# Altium schematic symbol library SCH - MCU - TI - TI MSPM0L222X LQFP-80 PNA.SchLib: 1 symbol
Pins are listed as number, name and electrical type; pins without a type are passive.

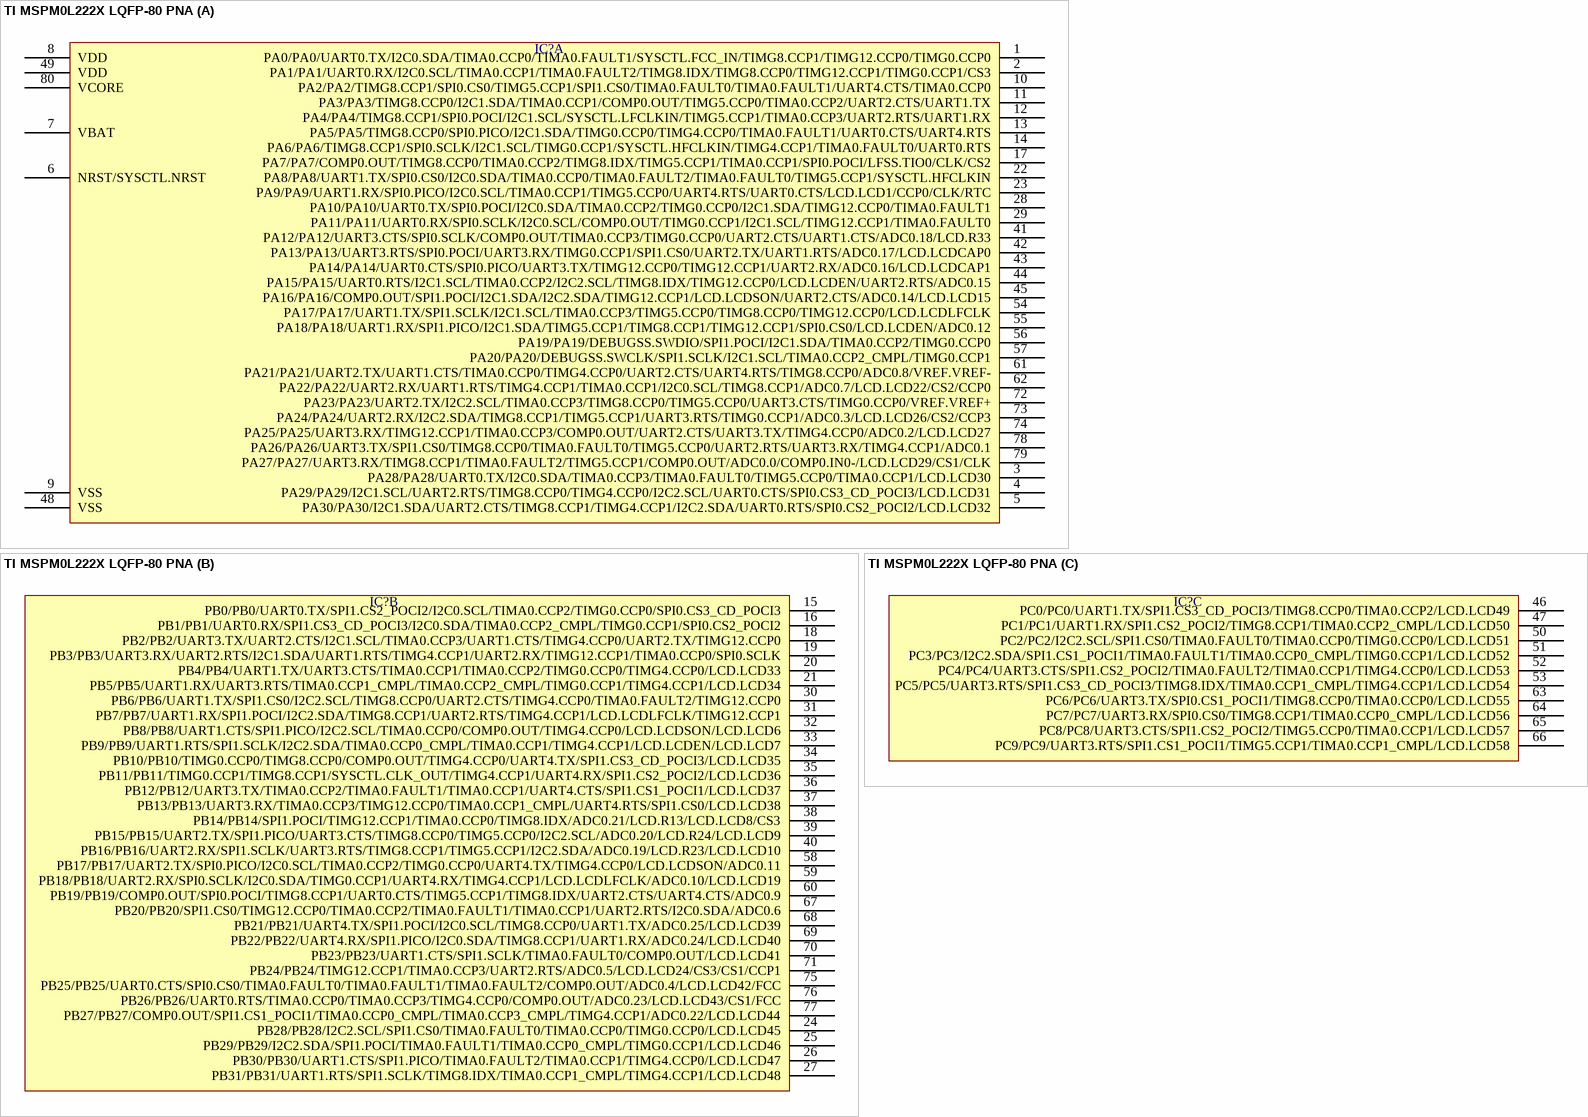
[diagram p0: symbol TI MSPM0L222X LQFP-80 PNA]

## TI MSPM0L222X LQFP-80 PNA
designator IC?  (value not drawn)
part A pins: 1 PA0/PA0/UART0.TX/I2C0.SDA/TIMA0.CCP0/TIMA0.FAULT1/SYSCTL.FCC_IN/TIMG8.CCP1/TIMG12.CCP0/TIMG0.CCP0, 2 PA1/PA1/UART0.RX/I2C0.SCL/TIMA0.CCP1/TIMA0.FAULT2/TIMG8.IDX/TIMG8.CCP0/TIMG12.CCP1/TIMG0.CCP1/CS3, 3 PA28/PA28/UART0.TX/I2C0.SDA/TIMA0.CCP3/TIMA0.FAULT0/TIMG5.CCP0/TIMA0.CCP1/LCD.LCD30, 4 PA29/PA29/I2C1.SCL/UART2.RTS/TIMG8.CCP0/TIMG4.CCP0/I2C2.SCL/UART0.CTS/SPI0.CS3_CD_POCI3/LCD.LCD31, 5 PA30/PA30/I2C1.SDA/UART2.CTS/TIMG8.CCP1/TIMG4.CCP1/I2C2.SDA/UART0.RTS/SPI0.CS2_POCI2/LCD.LCD32, 6 NRST/SYSCTL.NRST, 7 VBAT, 8 VDD, 9 VSS, 10 PA2/PA2/TIMG8.CCP1/SPI0.CS0/TIMG5.CCP1/SPI1.CS0/TIMA0.FAULT0/TIMA0.FAULT1/UART4.CTS/TIMA0.CCP0, 11 PA3/PA3/TIMG8.CCP0/I2C1.SDA/TIMA0.CCP1/COMP0.OUT/TIMG5.CCP0/TIMA0.CCP2/UART2.CTS/UART1.TX, 12 PA4/PA4/TIMG8.CCP1/SPI0.POCI/I2C1.SCL/SYSCTL.LFCLKIN/TIMG5.CCP1/TIMA0.CCP3/UART2.RTS/UART1.RX, 13 PA5/PA5/TIMG8.CCP0/SPI0.PICO/I2C1.SDA/TIMG0.CCP0/TIMG4.CCP0/TIMA0.FAULT1/UART0.CTS/UART4.RTS, 14 PA6/PA6/TIMG8.CCP1/SPI0.SCLK/I2C1.SCL/TIMG0.CCP1/SYSCTL.HFCLKIN/TIMG4.CCP1/TIMA0.FAULT0/UART0.RTS, 17 PA7/PA7/COMP0.OUT/TIMG8.CCP0/TIMA0.CCP2/TIMG8.IDX/TIMG5.CCP1/TIMA0.CCP1/SPI0.POCI/LFSS.TIO0/CLK/CS2, 22 PA8/PA8/UART1.TX/SPI0.CS0/I2C0.SDA/TIMA0.CCP0/TIMA0.FAULT2/TIMA0.FAULT0/TIMG5.CCP1/SYSCTL.HFCLKIN, 23 PA9/PA9/UART1.RX/SPI0.PICO/I2C0.SCL/TIMA0.CCP1/TIMG5.CCP0/UART4.RTS/UART0.CTS/LCD.LCD1/CCP0/CLK/RTC, 28 PA10/PA10/UART0.TX/SPI0.POCI/I2C0.SDA/TIMA0.CCP2/TIMG0.CCP0/I2C1.SDA/TIMG12.CCP0/TIMA0.FAULT1, 29 PA11/PA11/UART0.RX/SPI0.SCLK/I2C0.SCL/COMP0.OUT/TIMG0.CCP1/I2C1.SCL/TIMG12.CCP1/TIMA0.FAULT0, 41 PA12/PA12/UART3.CTS/SPI0.SCLK/COMP0.OUT/TIMA0.CCP3/TIMG0.CCP0/UART2.CTS/UART1.CTS/ADC0.18/LCD.R33, 42 PA13/PA13/UART3.RTS/SPI0.POCI/UART3.RX/TIMG0.CCP1/SPI1.CS0/UART2.TX/UART1.RTS/ADC0.17/LCD.LCDCAP0, 43 PA14/PA14/UART0.CTS/SPI0.PICO/UART3.TX/TIMG12.CCP0/TIMG12.CCP1/UART2.RX/ADC0.16/LCD.LCDCAP1, 44 PA15/PA15/UART0.RTS/I2C1.SCL/TIMA0.CCP2/I2C2.SCL/TIMG8.IDX/TIMG12.CCP0/LCD.LCDEN/UART2.RTS/ADC0.15, 45 PA16/PA16/COMP0.OUT/SPI1.POCI/I2C1.SDA/I2C2.SDA/TIMG12.CCP1/LCD.LCDSON/UART2.CTS/ADC0.14/LCD.LCD15, 48 VSS, 49 VDD, 54 PA17/PA17/UART1.TX/SPI1.SCLK/I2C1.SCL/TIMA0.CCP3/TIMG5.CCP0/TIMG8.CCP0/TIMG12.CCP0/LCD.LCDLFCLK, 55 PA18/PA18/UART1.RX/SPI1.PICO/I2C1.SDA/TIMG5.CCP1/TIMG8.CCP1/TIMG12.CCP1/SPI0.CS0/LCD.LCDEN/ADC0.12, 56 PA19/PA19/DEBUGSS.SWDIO/SPI1.POCI/I2C1.SDA/TIMA0.CCP2/TIMG0.CCP0, 57 PA20/PA20/DEBUGSS.SWCLK/SPI1.SCLK/I2C1.SCL/TIMA0.CCP2_CMPL/TIMG0.CCP1, 61 PA21/PA21/UART2.TX/UART1.CTS/TIMA0.CCP0/TIMG4.CCP0/UART2.CTS/UART4.RTS/TIMG8.CCP0/ADC0.8/VREF.VREF-, 62 PA22/PA22/UART2.RX/UART1.RTS/TIMG4.CCP1/TIMA0.CCP1/I2C0.SCL/TIMG8.CCP1/ADC0.7/LCD.LCD22/CS2/CCP0, 72 PA23/PA23/UART2.TX/I2C2.SCL/TIMA0.CCP3/TIMG8.CCP0/TIMG5.CCP0/UART3.CTS/TIMG0.CCP0/VREF.VREF+, 73 PA24/PA24/UART2.RX/I2C2.SDA/TIMG8.CCP1/TIMG5.CCP1/UART3.RTS/TIMG0.CCP1/ADC0.3/LCD.LCD26/CS2/CCP3, 74 PA25/PA25/UART3.RX/TIMG12.CCP1/TIMA0.CCP3/COMP0.OUT/UART2.CTS/UART3.TX/TIMG4.CCP0/ADC0.2/LCD.LCD27, 78 PA26/PA26/UART3.TX/SPI1.CS0/TIMG8.CCP0/TIMA0.FAULT0/TIMG5.CCP0/UART2.RTS/UART3.RX/TIMG4.CCP1/ADC0.1, 79 PA27/PA27/UART3.RX/TIMG8.CCP1/TIMA0.FAULT2/TIMG5.CCP1/COMP0.OUT/ADC0.0/COMP0.IN0-/LCD.LCD29/CS1/CLK, 80 VCORE
part B pins: 15 PB0/PB0/UART0.TX/SPI1.CS2_POCI2/I2C0.SCL/TIMA0.CCP2/TIMG0.CCP0/SPI0.CS3_CD_POCI3, 16 PB1/PB1/UART0.RX/SPI1.CS3_CD_POCI3/I2C0.SDA/TIMA0.CCP2_CMPL/TIMG0.CCP1/SPI0.CS2_POCI2, 18 PB2/PB2/UART3.TX/UART2.CTS/I2C1.SCL/TIMA0.CCP3/UART1.CTS/TIMG4.CCP0/UART2.TX/TIMG12.CCP0, 19 PB3/PB3/UART3.RX/UART2.RTS/I2C1.SDA/UART1.RTS/TIMG4.CCP1/UART2.RX/TIMG12.CCP1/TIMA0.CCP0/SPI0.SCLK, 20 PB4/PB4/UART1.TX/UART3.CTS/TIMA0.CCP1/TIMA0.CCP2/TIMG0.CCP0/TIMG4.CCP0/LCD.LCD33, 21 PB5/PB5/UART1.RX/UART3.RTS/TIMA0.CCP1_CMPL/TIMA0.CCP2_CMPL/TIMG0.CCP1/TIMG4.CCP1/LCD.LCD34, 24 PB28/PB28/I2C2.SCL/SPI1.CS0/TIMA0.FAULT0/TIMA0.CCP0/TIMG0.CCP0/LCD.LCD45, 25 PB29/PB29/I2C2.SDA/SPI1.POCI/TIMA0.FAULT1/TIMA0.CCP0_CMPL/TIMG0.CCP1/LCD.LCD46, 26 PB30/PB30/UART1.CTS/SPI1.PICO/TIMA0.FAULT2/TIMA0.CCP1/TIMG4.CCP0/LCD.LCD47, 27 PB31/PB31/UART1.RTS/SPI1.SCLK/TIMG8.IDX/TIMA0.CCP1_CMPL/TIMG4.CCP1/LCD.LCD48, 30 PB6/PB6/UART1.TX/SPI1.CS0/I2C2.SCL/TIMG8.CCP0/UART2.CTS/TIMG4.CCP0/TIMA0.FAULT2/TIMG12.CCP0, 31 PB7/PB7/UART1.RX/SPI1.POCI/I2C2.SDA/TIMG8.CCP1/UART2.RTS/TIMG4.CCP1/LCD.LCDLFCLK/TIMG12.CCP1, 32 PB8/PB8/UART1.CTS/SPI1.PICO/I2C2.SCL/TIMA0.CCP0/COMP0.OUT/TIMG4.CCP0/LCD.LCDSON/LCD.LCD6, 33 PB9/PB9/UART1.RTS/SPI1.SCLK/I2C2.SDA/TIMA0.CCP0_CMPL/TIMA0.CCP1/TIMG4.CCP1/LCD.LCDEN/LCD.LCD7, 34 PB10/PB10/TIMG0.CCP0/TIMG8.CCP0/COMP0.OUT/TIMG4.CCP0/UART4.TX/SPI1.CS3_CD_POCI3/LCD.LCD35, 35 PB11/PB11/TIMG0.CCP1/TIMG8.CCP1/SYSCTL.CLK_OUT/TIMG4.CCP1/UART4.RX/SPI1.CS2_POCI2/LCD.LCD36, 36 PB12/PB12/UART3.TX/TIMA0.CCP2/TIMA0.FAULT1/TIMA0.CCP1/UART4.CTS/SPI1.CS1_POCI1/LCD.LCD37, 37 PB13/PB13/UART3.RX/TIMA0.CCP3/TIMG12.CCP0/TIMA0.CCP1_CMPL/UART4.RTS/SPI1.CS0/LCD.LCD38, 38 PB14/PB14/SPI1.POCI/TIMG12.CCP1/TIMA0.CCP0/TIMG8.IDX/ADC0.21/LCD.R13/LCD.LCD8/CS3, 39 PB15/PB15/UART2.TX/SPI1.PICO/UART3.CTS/TIMG8.CCP0/TIMG5.CCP0/I2C2.SCL/ADC0.20/LCD.R24/LCD.LCD9, 40 PB16/PB16/UART2.RX/SPI1.SCLK/UART3.RTS/TIMG8.CCP1/TIMG5.CCP1/I2C2.SDA/ADC0.19/LCD.R23/LCD.LCD10, 58 PB17/PB17/UART2.TX/SPI0.PICO/I2C0.SCL/TIMA0.CCP2/TIMG0.CCP0/UART4.TX/TIMG4.CCP0/LCD.LCDSON/ADC0.11, 59 PB18/PB18/UART2.RX/SPI0.SCLK/I2C0.SDA/TIMG0.CCP1/UART4.RX/TIMG4.CCP1/LCD.LCDLFCLK/ADC0.10/LCD.LCD19, 60 PB19/PB19/COMP0.OUT/SPI0.POCI/TIMG8.CCP1/UART0.CTS/TIMG5.CCP1/TIMG8.IDX/UART2.CTS/UART4.CTS/ADC0.9, 67 PB20/PB20/SPI1.CS0/TIMG12.CCP0/TIMA0.CCP2/TIMA0.FAULT1/TIMA0.CCP1/UART2.RTS/I2C0.SDA/ADC0.6, 68 PB21/PB21/UART4.TX/SPI1.POCI/I2C0.SCL/TIMG8.CCP0/UART1.TX/ADC0.25/LCD.LCD39, 69 PB22/PB22/UART4.RX/SPI1.PICO/I2C0.SDA/TIMG8.CCP1/UART1.RX/ADC0.24/LCD.LCD40, 70 PB23/PB23/UART1.CTS/SPI1.SCLK/TIMA0.FAULT0/COMP0.OUT/LCD.LCD41, 71 PB24/PB24/TIMG12.CCP1/TIMA0.CCP3/UART2.RTS/ADC0.5/LCD.LCD24/CS3/CS1/CCP1, 75 PB25/PB25/UART0.CTS/SPI0.CS0/TIMA0.FAULT0/TIMA0.FAULT1/TIMA0.FAULT2/COMP0.OUT/ADC0.4/LCD.LCD42/FCC, 76 PB26/PB26/UART0.RTS/TIMA0.CCP0/TIMA0.CCP3/TIMG4.CCP0/COMP0.OUT/ADC0.23/LCD.LCD43/CS1/FCC, 77 PB27/PB27/COMP0.OUT/SPI1.CS1_POCI1/TIMA0.CCP0_CMPL/TIMA0.CCP3_CMPL/TIMG4.CCP1/ADC0.22/LCD.LCD44
part C pins: 46 PC0/PC0/UART1.TX/SPI1.CS3_CD_POCI3/TIMG8.CCP0/TIMA0.CCP2/LCD.LCD49, 47 PC1/PC1/UART1.RX/SPI1.CS2_POCI2/TIMG8.CCP1/TIMA0.CCP2_CMPL/LCD.LCD50, 50 PC2/PC2/I2C2.SCL/SPI1.CS0/TIMA0.FAULT0/TIMA0.CCP0/TIMG0.CCP0/LCD.LCD51, 51 PC3/PC3/I2C2.SDA/SPI1.CS1_POCI1/TIMA0.FAULT1/TIMA0.CCP0_CMPL/TIMG0.CCP1/LCD.LCD52, 52 PC4/PC4/UART3.CTS/SPI1.CS2_POCI2/TIMA0.FAULT2/TIMA0.CCP1/TIMG4.CCP0/LCD.LCD53, 53 PC5/PC5/UART3.RTS/SPI1.CS3_CD_POCI3/TIMG8.IDX/TIMA0.CCP1_CMPL/TIMG4.CCP1/LCD.LCD54, 63 PC6/PC6/UART3.TX/SPI0.CS1_POCI1/TIMG8.CCP0/TIMA0.CCP0/LCD.LCD55, 64 PC7/PC7/UART3.RX/SPI0.CS0/TIMG8.CCP1/TIMA0.CCP0_CMPL/LCD.LCD56, 65 PC8/PC8/UART3.CTS/SPI1.CS2_POCI2/TIMG5.CCP0/TIMA0.CCP1/LCD.LCD57, 66 PC9/PC9/UART3.RTS/SPI1.CS1_POCI1/TIMG5.CCP1/TIMA0.CCP1_CMPL/LCD.LCD58